# EAGLE library part ADC124S101CIMM_NOPB (library ADC124S101CIMM_NOPB)
4 Channel, 500 ksps to 1 Msps, 12-Bit A/D Converter Source: Datasheet <http://www.ti.com/lit/ds/symlink/adc124s101.pdf>
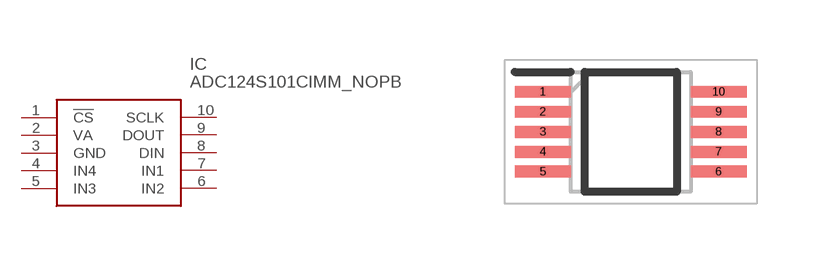
[diagram p0: symbol with the pads of SOP50P490X110-10N; footprint SOP50P490X110-10N]

Designator prefix IC

## ADC124S101CIMM_NOPB (Arrow_Part_Number: ADC124S101CIMM/NOPB; Arrow_Price-Stock: https://www.arrow.com/en/products/adc124s101cimmnopb/texas-instruments; Description: 4 Channel, 500 ksps to 1 Msps, 12-Bit A/D Converter; Height: 1.1mm; Manufacturer_Name: Texas Instruments; Manufacturer_Part_Number: ADC124S101CIMM/NOPB; Mouser_Part_Number: 926-AD124S101CIMMNPB; Mouser_Price-Stock: https://www.mouser.co.uk/ProductDetail/Texas-Instruments/ADC124S101CIMM-NOPB?qs=7X5t%252BdzoRHD7V7sCz8DzxQ%3D%3D)  [SOP50P490X110-10N]
1  !CS  in
2  VA
3  GND  pwr
4  IN4  in
5  IN3  in
6  IN2  in
7  IN1  in
8  DIN  in
9  DOUT  out
10  SCLK  in

## Footprint SOP50P490X110-10N (pad centres in mm)
DGS (S-PDSO-G10)
smd 1.4 x 0.3: 1 -2.2,1; 2 -2.2,0.5; 3 -2.2,0; 4 -2.2,-0.5; 5 -2.2,-1; 6 2.2,-1; 7 2.2,-0.5; 8 2.2,0; 9 2.2,0.5; 10 2.2,1